# EAGLE library part LCD-15 (library machine_science2)
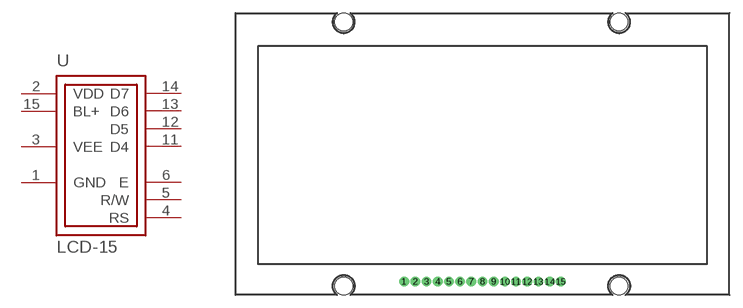
[diagram p0: symbol with the pads of NHD-0212WH; footprint NHD-0212WH]

Designator prefix -

## LCD-15-NH2-12  [NHD-0212WH]
1  GND  pwr
2  VDD  pwr
3  VEE  pwr
4  RS  pas
5  R/W  pas
6  E
11  D4
12  D5
13  D6
14  D7
15  BL+  pwr

## Footprint NHD-0212WH (pad centres in mm)
New Haven LCD 2 X12 HD44780 with backlight NHD-0212WH
drill 0.6 pad 1 round: 1 -8.89,0; 2 -7.62,0; 3 -6.35,0; 4 -5.08,0; 5 -3.81,0; 6 -2.54,0; 7 -1.27,0; 8 0,0; 9 1.27,0; 10 2.54,0; 11 3.81,0; 12 5.08,0; 13 6.35,0; 14 7.62,0; 15 8.89,0
hole 2 at -15.75,-0.5
hole 2 at -15.75,29.5
hole 2 at 15.5,29.5
hole 2 at 15.5,-0.5